# Altium schematic symbol library Connectors.SchLib: 24 symbols
Pins are listed as number, name and electrical type; pins without a type are passive.

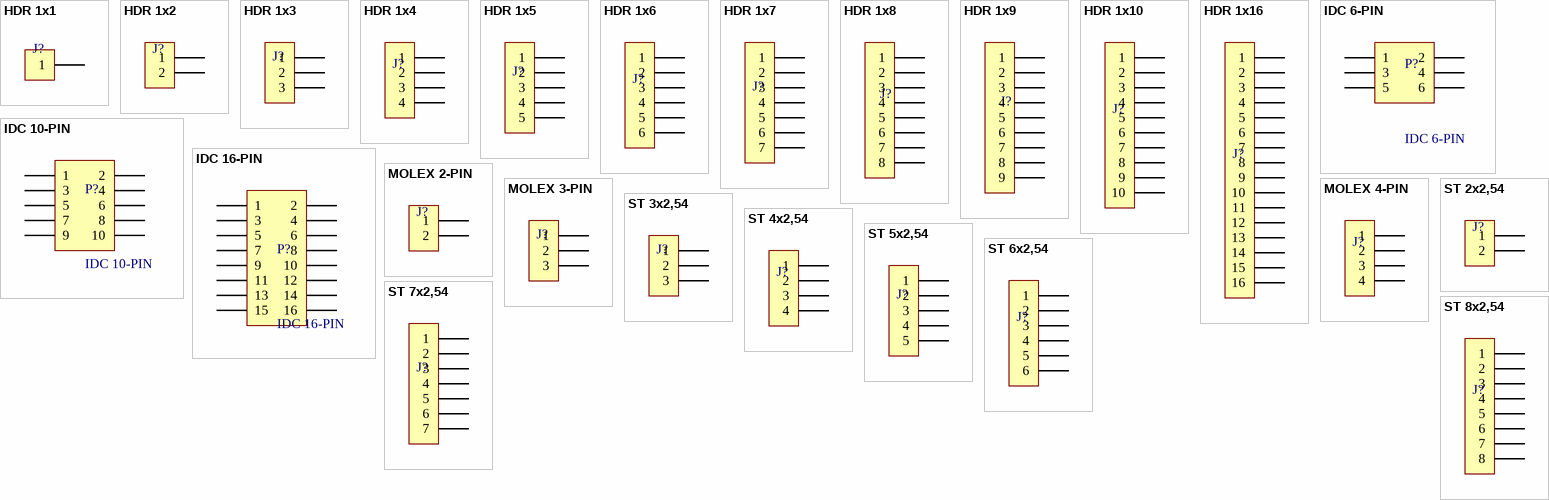
[diagram p0: symbols HDR 1x1 to ST 8x2,54]

## HDR 1x1
designator J?
Brake away header
footprint HDR1X1
footprint SMD pad 2x4 (2 mm x 4 mm)
pins: 1

## HDR 1x2
designator J?
Brake away header
footprint HDR1X2
footprint SMD HDR1X2
pins: 1, 2

## HDR 1x3
designator J?
Brake away header
footprint HDR1X3
footprint FRHDR1X3
pins: 1, 2, 3

## HDR 1x4
designator J?
Brake away header
footprint HDR1X4
pins: 1, 2, 3, 4

## HDR 1x5
designator J?
Brake away header
footprint HDR1X5
pins: 1, 2, 3, 4, 5

## HDR 1x6
designator J?
Brake away header
footprint HDR1X6
footprint FRHDR1X6
pins: 1, 2, 3, 4, 5, 6

## HDR 1x7
designator J?
Brake away header
footprint HDR1X7
pins: 1, 2, 3, 4, 5, 6, 7

## HDR 1x8
designator J?
Brake away header
footprint HDR1X8
pins: 1, 2, 3, 4, 5, 6, 7, 8

## HDR 1x9
designator J?
Brake away header
footprint HDR1X9
pins: 1, 2, 3, 4, 5, 6, 7, 8, 9

## HDR 1x10
designator J?
Brake away header
footprint HDR1X10
pins: 1, 2, 3, 4, 5, 6, 7, 8, 9, 10

## HDR 1x16
designator J?
Brake away header
footprint HDR1X16
pins: 1, 2, 3, 4, 5, 6, 7, 8, 9, 10, 11, 12, 13, 14, 15, 16

## IDC 6-PIN
designator P?
footprint IDC 6-Pin (Connector; IDC, Low Profile Male Header, Thru-Hole; 6 Position; Vertical; Pitch 2.54 mm; Body 15.24 x 9.2 x 9.45 mm (LxWxH))
pins: 1, 2, 3, 4, 5, 6

## IDC 10-PIN
designator P?
footprint IDC 10-Pin (Connector; IDC, Low Profile Male Header, Thru-Hole; 10 Position; Vertical; Pitch 2.54 mm; Body 15.24 x 9.2 x 9.45 mm (LxWxH))
pins: 1, 2, 3, 4, 5, 6, 7, 8, 9, 10

## IDC 16-PIN
designator P?
footprint IDC 16-Pin (Connector; IDC, Low Profile Male Header, Thru-Hole; 16 Position; Vertical; Pitch 2.54 mm; Body 15.24 x 9.2 x 9.45 mm (LxWxH))
pins: 1, 2, 3, 4, 5, 6, 7, 8, 9, 10, 11, 12, 13, 14, 15, 16

## MOLEX 2-PIN
designator J?
Fan header
footprint MOLEX 2-pin
pins: 1, 2

## MOLEX 3-PIN
designator J?
Fan header
footprint MOLEX 3-pin
pins: 1, 2, 3

## MOLEX 4-PIN
designator J?
Fan header
footprint MOLEX 4-pin
pins: 1, 2, 3, 4

## ST 2x2,54
designator J?
Screw terminal
footprint TE 282834-2
pins: 1, 2

## ST 3x2,54
designator J?
Screw terminal
footprint TE 282834-3
pins: 1, 2, 3

## ST 4x2,54
designator J?
Screw terminal
footprint TE 282834-4
pins: 1, 2, 3, 4

## ST 5x2,54
designator J?
Screw terminal
footprint TE 282834-5
pins: 1, 2, 3, 4, 5

## ST 6x2,54
designator J?
Screw terminal
footprint TE 282834-6
pins: 1, 2, 3, 4, 5, 6

## ST 7x2,54
designator J?
Screw terminal
footprint TE 282834-7
pins: 1, 2, 3, 4, 5, 6, 7

## ST 8x2,54
designator J?
Screw terminal
footprint TE 282834-8
pins: 1, 2, 3, 4, 5, 6, 7, 8